# Altium footprint library AFII-SW-0094-Q.PcbLib: 1 footprints
Each footprint in its own frame and in the unit in brackets; x right, y up, seen from the top. Pads: shape width x height; smd on the part's side, far side on the other; paste and mask are expansions set on the pad; w line width, h text height; cw(c..) or ccw(c..) is an arc to the next point about the centre after c.
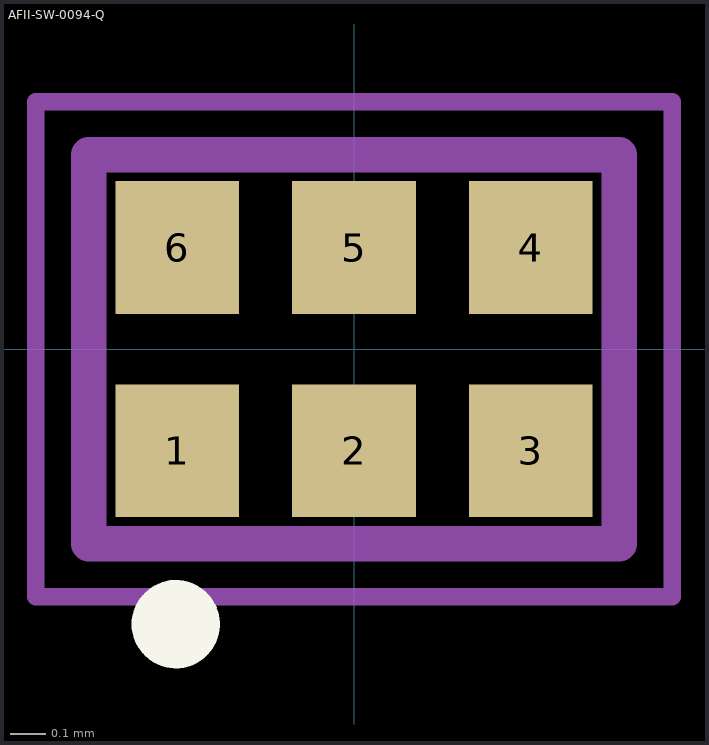
[diagram p0: the footprint, top view; thin cyan lines are the x and y axes]

## AFII-SW-0094-Q [mm]
height 0.38
pads (6):
  rect 0.35x0.375 smd: 1(-0.5,-0.288) 2(0,-0.288) 3(0.5,-0.288) 4(0.5,0.288) 5(0,0.288) 6(-0.5,0.288)
Top Overlay:
  circle w0.125: c-0.504,-0.778 r0.062
Top Assembly:
  lines w0.1: -0.75,-0.55 -0.75,0.55 0.75,0.55 0.75,-0.55 -0.75,-0.55
Top Courtyard:
  lines w0.05: -0.9,-0.7 0.9,-0.7 0.9,0.7 -0.9,0.7 -0.9,-0.7
3D body: height 0.38, standoff 0, extent -0.75,-0.55 0.75,0.55